# Altium footprint library 120591_1.PcbLib: 1 footprints
Each footprint in its own frame and in the unit in brackets; x right, y up, seen from the top. Pads: shape width x height; smd on the part's side, far side on the other; paste and mask are expansions set on the pad; w line width, h text height; cw(c..) or ccw(c..) is an arc to the next point about the centre after c.
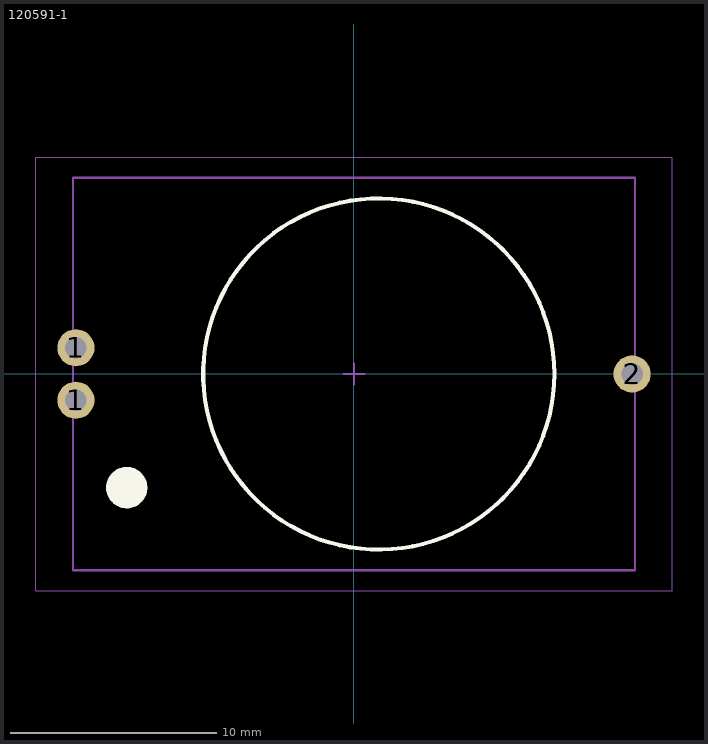
[diagram p0: the footprint, top view; thin cyan lines are the x and y axes]

## 120591-1 [mm] "Battery Holder, Battery Compatibility CR2032, 3 Pins"
height 6.32
pads (3):
  round 1.8 hole 1.05: 1(-13.46,-1.27) 1(-13.46,1.27) 2(13.46,0)
Top Overlay:
  circle w0.2: c1.2,0 r8.5
  circle w1: c-11,-5.5 r0.5
Top Comment:
  text ".Comment" at 1,11 h1.2
Top Designator:
  text ".Designator" at -0.5,11 h1.2
Top Component Outline:
  lines w0.1: -13.6,-9.5 -13.6,9.5 0.9,9.5 13.6,9.5 13.6,-9.5 -13.6,-9.5
Top Courtyard (Mech15):
  lines w0.05: -15.4,-10.5 -15.4,10.5 -14.6,10.5 0,10.5 15.4,10.5 15.4,-10.5 -15.4,-10.5
  lines w0.1: -0.5,0 0.5,0 ; 0,-0.5 0,0.5
3D body "c-120591-1-j1-3d.stp": height 6.42, standoff -3.03, extent -13.634,-9.525 13.671,9.525